# EAGLE library part SD-106M (library SD-106M)
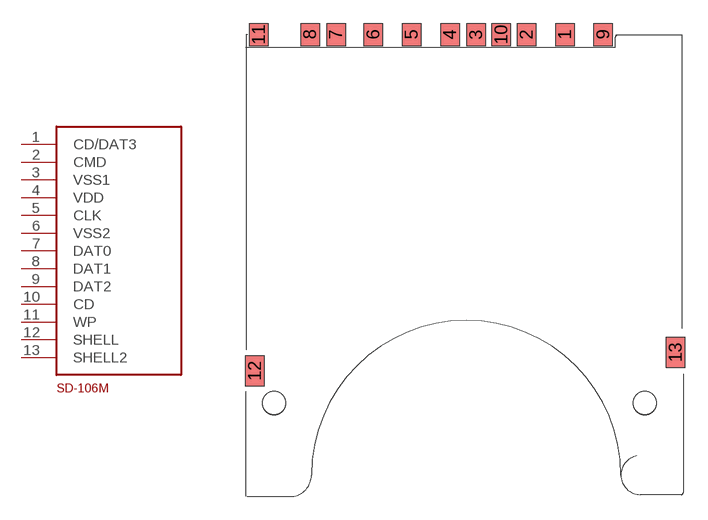
[diagram p0: symbol with the pads of SDCARD; footprint SDCARD]

Designator prefix -

## SD-106M  [SDCARD]
1  CD/DAT3
2  CMD
3  VSS1
4  VDD
5  CLK
6  VSS2
7  DAT0
8  DAT1
9  DAT2
10  CD
11  WP
12  SHELL
13  SHELL2

## Footprint SDCARD (pad centres in mm)
smd 1.2 x 1.5: 1 6.251,9.959; 2 3.747,9.959; 3 0.453,9.964; 4 -1.252,9.964; 5 -3.752,9.959; 6 -6.251,9.964; 7 -8.691,9.967; 8 -10.384,9.967; 9 8.751,9.964; 10 2.1,9.964; 11 -13.726,9.957
smd 1.2 x 2: 12 -13.981,-11.99; 13 13.476,-10.779
hole 1.524 at 11.465,-14.09
hole 1.524 at -12.735,-14.089